# EAGLE library part JPQ-04- (library jumpers)
Jumper Block
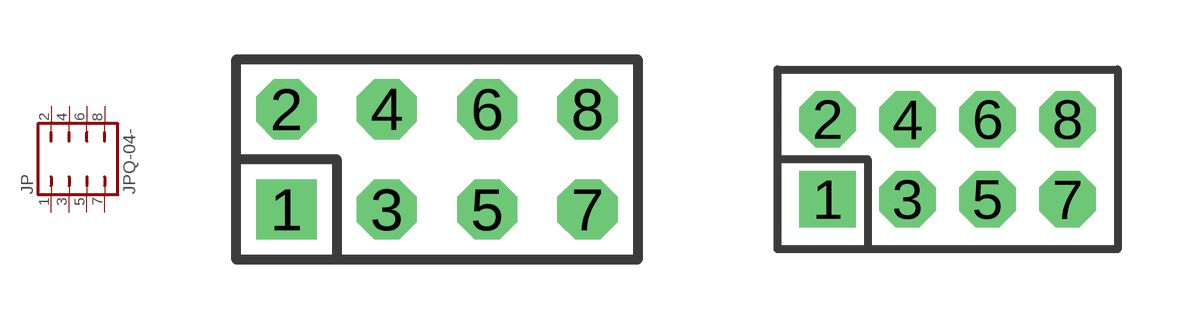
[diagram p9: symbol with the pads of JPQ-04; footprints JPQ-04, JPQ-04M]

Designator prefix JP

## JPQ-04-100  [JPQ-04]
1  1  pas
2  2  pas
3  3  pas
4  4  pas
5  5  pas
6  6  pas
7  7  pas
8  8  pas

## JPQ-04-2MM  [JPQ-04M]
Pads as for JPQ-04

## JPQ-04-GXC04  [GXC04]
Pads as for JPQ-04

## Footprint JPQ-04 (pad centres in mm)
JUMPER - 0.1" Pitch
drill 1.016 square: 1 -3.81,-1.27
drill 1.016 octagon: 2 -3.81,1.27; 3 -1.27,-1.27; 4 -1.27,1.27; 5 1.27,-1.27; 6 1.27,1.27; 7 3.81,-1.27; 8 3.81,1.27

## Footprint JPQ-04M (pad centres in mm)
JUMPER - 2.00mm (.079") Pitch
drill 0.914 square: 1 -3,-1
drill 0.914 octagon: 2 -3,1; 3 -1,-1; 4 -1,1; 5 1,-1; 6 1,1; 7 3,-1; 8 3,1

## Footprint GXC04 (pad centres in mm)
SMD HEADER - 0.1", Vertical
smd 1.27 x 5.08: 1 -3.81,-3.175; 2 -3.81,3.175; 3 -1.27,-3.175; 4 -1.27,3.175; 5 1.27,-3.175; 6 1.27,3.175; 7 3.81,-3.175; 8 3.81,3.175